# EAGLE library part 74HC7014 (library !Treadmill)
Hex Non-Inverting Schmitt-trigger
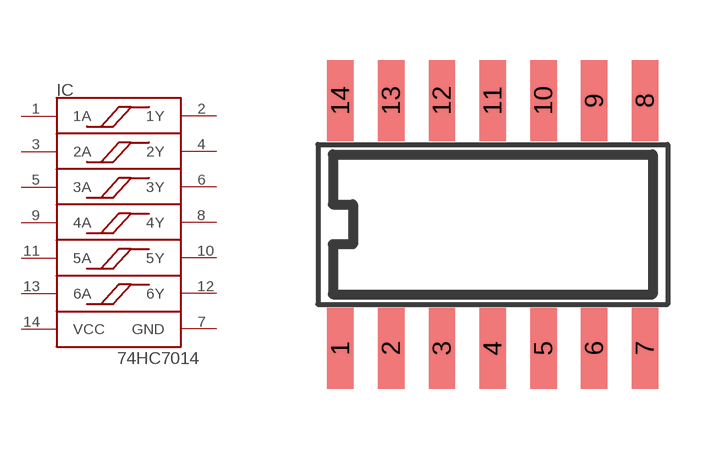
[diagram p4: symbol with the pads of SO14-(3.9MM-WIDTH); footprint SO14-(3.9MM-WIDTH)]

Designator prefix IC

## 74HC7014  [SO14-(3.9MM-WIDTH)]
1  1A  in
2  1Y  out
3  2A  in
4  2Y  out
5  3A  in
6  3Y  out
7  GND  pwr
8  4Y  out
9  4A  in
10  5Y  out
11  5A  in
12  6Y  out
13  6A  in
14  VCC  pwr

## Footprint SO14-(3.9MM-WIDTH) (pad centres in mm)
Small Outline Package (SO14); 14 leads; body width 3.9mm
smd 0.66 x 2.03: 1 -3.81,-3.1; 2 -2.54,-3.1; 3 -1.27,-3.1; 4 0,-3.1; 5 1.27,-3.1; 6 2.54,-3.1; 7 3.81,-3.1; 8 3.81,3.1; 9 2.54,3.1; 10 1.27,3.1; 11 0,3.1; 12 -1.27,3.1; 13 -2.54,3.1; 14 -3.81,3.1